# Altium integrated library GRM188R60J105KA01D.IntLib: 1 symbol
Pins are listed as number, name and electrical type; pins without a type are passive.

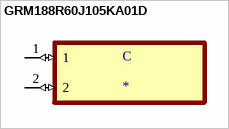
[diagram p0: symbol GRM188R60J105KA01D]

## GRM188R60J105KA01D
designator C
SMD Capacitor X5R(EIA) with Capacitance: 1.0uF Tol. 10%. Rated Voltage: 6.3Vdc; MP: GRM188R60J105KA01D; MF: Murata Electronics; DigiKey-Purchase-URL: https://snapeda.com/shop?store=DigiKey&id=341022; SnapEDA_Link: https://www.snapeda.com/parts/GRM188R60J105KA01D/Murata%20Electronics%20North%20America/view-part/341022/?ref=snap; Value: *; Package: 1608 Murata; Digi-Key_Part_Number: 490-1550-1-ND
footprint CAPC1608X90N
pins: 1 (io), 2 (io)